# EAGLE library part CH348L (library CH348L)
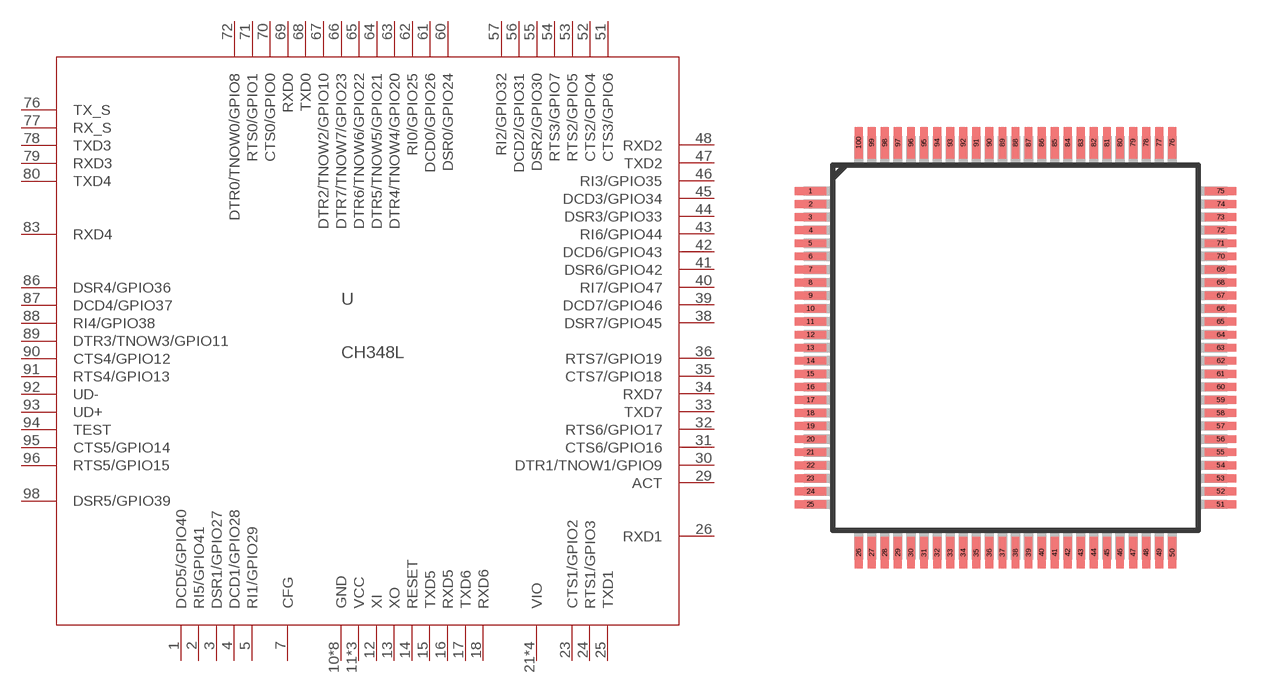
[diagram p0: symbol with the pads of LQFP100_14X14; footprint LQFP100_14X14]

Designator prefix -

## CH348L  [LQFP100_14X14]
1  DCD5/GPIO40
2  RI5/GPIO41
3  DSR1/GPIO27
4  DCD1/GPIO28
5  RI1/GPIO29
7  CFG
10  GND
11  VCC
12  XI
13  XO
14  RESET
15  TXD5
16  RXD5
17  TXD6
18  RXD6
19  GND
20  GND
21  VIO
22  VIO
23  CTS1/GPIO2
24  RTS1/GPIO3
25  TXD1
26  RXD1
27  GND
28  VCC
29  ACT
30  DTR1/TNOW1/GPIO9
31  CTS6/GPIO16
32  RTS6/GPIO17
33  TXD7
34  RXD7
35  CTS7/GPIO18
36  RTS7/GPIO19
37  GND
38  DSR7/GPIO45
39  DCD7/GPIO46
40  RI7/GPIO47
41  DSR6/GPIO42
42  DCD6/GPIO43
43  RI6/GPIO44
44  DSR3/GPIO33
45  DCD3/GPIO34
46  RI3/GPIO35
47  TXD2
48  RXD2
49  GND
50  VIO
51  CTS3/GPIO6
52  CTS2/GPIO4
53  RTS2/GPIO5
54  RTS3/GPIO7
55  DSR2/GPIO30
56  DCD2/GPIO31
57  RI2/GPIO32
60  DSR0/GPIO24
61  DCD0/GPIO26
62  RI0/GPIO25
63  DTR4/TNOW4/GPIO20
64  DTR5/TNOW5/GPIO21
65  DTR6/TNOW6/GPIO22
66  DTR7/TNOW7/GPIO23
67  DTR2/TNOW2/GPIO10
68  TXD0
69  RXD0
70  CTS0/GPIO0
71  RTS0/GPIO1
72  DTR0/TNOW0/GPIO8
74  GND
75  VCC
76  TX_S
77  RX_S
78  TXD3
79  RXD3
80  TXD4
83  RXD4
86  DSR4/GPIO36
87  DCD4/GPIO37
88  RI4/GPIO38
89  DTR3/TNOW3/GPIO11
90  CTS4/GPIO12
91  RTS4/GPIO13
92  UD-
93  UD+
94  TEST
95  CTS5/GPIO14
96  RTS5/GPIO15
98  DSR5/GPIO39
99  GND
100  VIO

## Footprint LQFP100_14X14 (pad centres in mm)
LQFP100_PACKAGE Auto generated by make-symbol-device-package-bsdl.ulp Rev. 44
smd 1.2 x 0.3: 1 -7.85,6; 2 -7.85,5.5; 3 -7.85,5; 4 -7.85,4.5; 5 -7.85,4; 6 -7.85,3.5; 7 -7.85,3; 8 -7.85,2.5; 9 -7.85,2; 10 -7.85,1.5; 11 -7.85,1; 12 -7.85,0.5; 13 -7.85,0; 14 -7.85,-0.5; 15 -7.85,-1; 16 -7.85,-1.5; 17 -7.85,-2; 18 -7.85,-2.5; 19 -7.85,-3; 20 -7.85,-3.5; 21 -7.85,-4; 22 -7.85,-4.5; 23 -7.85,-5; 24 -7.85,-5.5; 25 -7.85,-6; 51 7.85,-6; 52 7.85,-5.5; 53 7.85,-5; 54 7.85,-4.5; 55 7.85,-4; 56 7.85,-3.5; 57 7.85,-3; 58 7.85,-2.5; 59 7.85,-2; 60 7.85,-1.5; 61 7.85,-1; 62 7.85,-0.5; 63 7.85,0; 64 7.85,0.5; 65 7.85,1; 66 7.85,1.5; 67 7.85,2; 68 7.85,2.5; 69 7.85,3; 70 7.85,3.5; 71 7.85,4; 72 7.85,4.5; 73 7.85,5; 74 7.85,5.5; 75 7.85,6
smd 0.3 x 1.2: 26 -6,-7.85; 27 -5.5,-7.85; 28 -5,-7.85; 29 -4.5,-7.85; 30 -4,-7.85; 31 -3.5,-7.85; 32 -3,-7.85; 33 -2.5,-7.85; 34 -2,-7.85; 35 -1.5,-7.85; 36 -1,-7.85; 37 -0.5,-7.85; 38 0,-7.85; 39 0.5,-7.85; 40 1,-7.85; 41 1.5,-7.85; 42 2,-7.85; 43 2.5,-7.85; 44 3,-7.85; 45 3.5,-7.85; 46 4,-7.85; 47 4.5,-7.85; 48 5,-7.85; 49 5.5,-7.85; 50 6,-7.85; 76 6,7.85; 77 5.5,7.85; 78 5,7.85; 79 4.5,7.85; 80 4,7.85; 81 3.5,7.85; 82 3,7.85; 83 2.5,7.85; 84 2,7.85; 85 1.5,7.85; 86 1,7.85; 87 0.5,7.85; 88 0,7.85; 89 -0.5,7.85; 90 -1,7.85; 91 -1.5,7.85; 92 -2,7.85; 93 -2.5,7.85; 94 -3,7.85; 95 -3.5,7.85; 96 -4,7.85; 97 -4.5,7.85; 98 -5,7.85; 99 -5.5,7.85; 100 -6,7.85